# EAGLE library part I-03944_OSL40562-IG (library Akizuki)
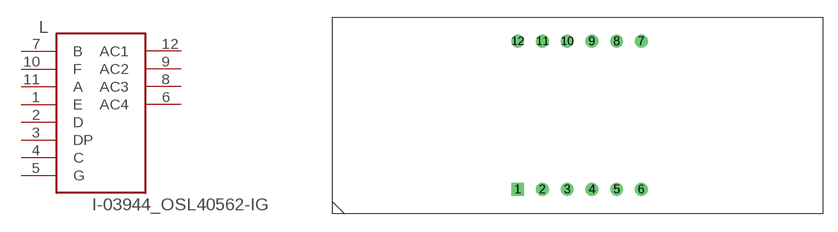
[diagram p5: symbol with the pads of OSL40562-IG; footprint OSL40562-IG]

Designator prefix L

## I-03944_OSL40562-IG  [OSL40562-IG]
1  E
2  D
3  DP
4  C
5  G
6  AC4
7  B
8  AC3
9  AC2
10  F
11  A
12  AC1

## Footprint OSL40562-IG (pad centres in mm)
drill 0.8 square: 1 0,0
drill 0.8: 2 2.54,0; 3 5.08,0; 4 7.62,0; 5 10.16,0; 6 12.7,0; 7 12.7,15.24; 8 10.16,15.24; 9 7.62,15.24; 10 5.08,15.24; 11 2.54,15.24; 12 0,15.24